# EAGLE library part 0TG-LIB-V01.5_SEN-TIME-DS3231-(PERSICION-TEMP) (library TG-Watch02B-rev04)
from: adafruit altered for this library by: TG-Techie
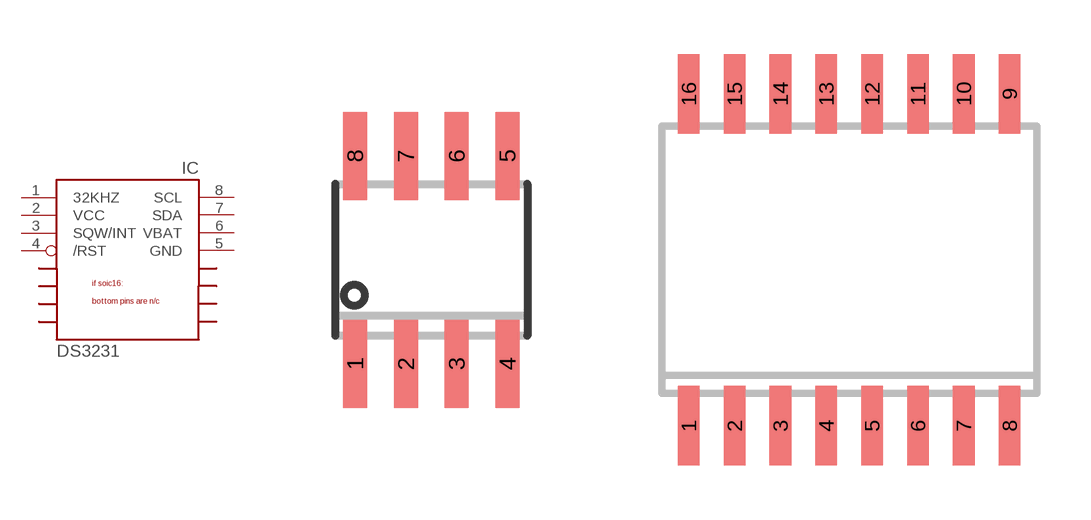
[diagram p5: symbol with the pads of 0TG-LIB-V01.5_SOIC8_150MIL; footprints 0TG-LIB-V01.5_SOIC8_150MIL, 0TG-LIB-V01.5_SOIC16W]

Designator prefix IC

## 0TG-LIB-V01.5_SEN-TIME-DS3231-(PERSICION-TEMP)  [0TG-LIB-V01.5_SOIC8_150MIL]
1  32KHZ  out
2  VCC  pwr
3  SQW/INT  out
4  /RST  pas
5  GND  pwr
6  VBAT  pwr
7  SDA
8  SCL

## 0TG-LIB-V01.5_SEN-TIME-DS3231-(PERSICION-TEMP)/SO  [0TG-LIB-V01.5_SOIC16W]
1  32KHZ  out
2  VCC  pwr
3  SQW/INT  out
4  /RST  pas
13  GND  pwr
14  VBAT  pwr
15  SDA
16  SCL

## Footprint 0TG-LIB-V01.5_SOIC8_150MIL (pad centres in mm)
Small Outline IC - 150mil Wide
smd 0.6 x 2.2: 1 -1.905,-2.6; 2 -0.635,-2.6; 3 0.635,-2.6; 4 1.905,-2.6; 5 1.905,2.6; 6 0.635,2.6; 7 -0.635,2.6; 8 -1.905,2.6

## Footprint 0TG-LIB-V01.5_SOIC16W (pad centres in mm)
SMALL OUTLINE INTEGRATED CIRCUIT wide body 7.5 mm/JEDEC MS-013AA
smd 0.6 x 2.2: 1 -4.445,-4.6; 2 -3.175,-4.6; 3 -1.905,-4.6; 4 -0.635,-4.6; 5 0.635,-4.6; 6 1.905,-4.6; 7 3.175,-4.6; 8 4.445,-4.6; 9 4.445,4.6; 10 3.175,4.6; 11 1.905,4.6; 12 0.635,4.6; 13 -0.635,4.6; 14 -1.905,4.6; 15 -3.175,4.6; 16 -4.445,4.6